# EAGLE library part TSOP48-SRAM (library arcadetv)
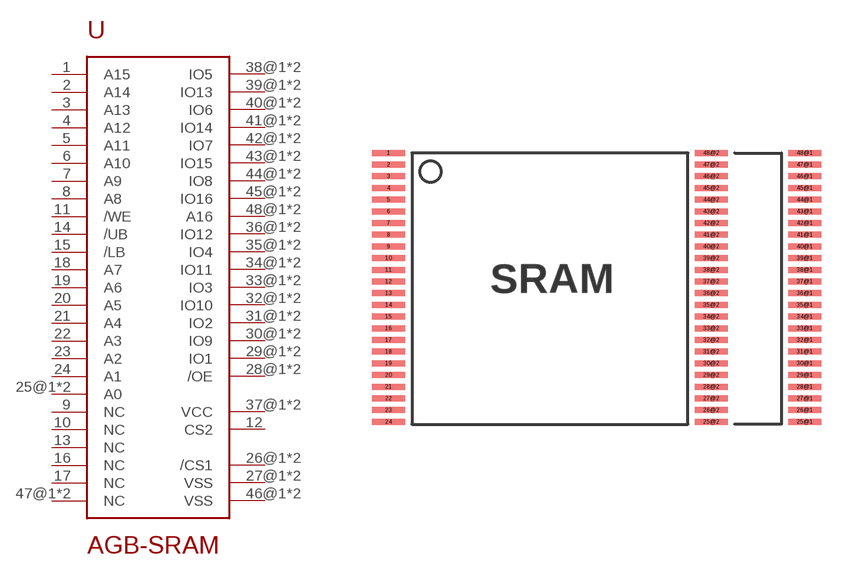
[diagram p15: symbol with the pads of TSOP48-SRAM; footprint TSOP48-SRAM]

Designator prefix -

## TSOP48-SRAM  [TSOP48-SRAM]
1  A15
2  A14
3  A13
4  A12
5  A11
6  A10
7  A9
8  A8
9  NC
10  NC
11  /WE
12  CS2
13  NC
14  /UB
15  /LB
16  NC
17  NC
18  A7
19  A6
20  A5
21  A4
22  A3
23  A2
24  A1
25@1  A0
25@2  A0
26@1  /CS1
26@2  /CS1
27@1  VSS
27@2  VSS
28@1  /OE
28@2  /OE
29@1  IO1
29@2  IO1
30@1  IO9
30@2  IO9
31@1  IO2
31@2  IO2
32@1  IO10
32@2  IO10
33@1  IO3
33@2  IO3
34@1  IO11
34@2  IO11
35@1  IO4
35@2  IO4
36@1  IO12
36@2  IO12
37@1  VCC
37@2  VCC
38@1  IO5
38@2  IO5
39@1  IO13
39@2  IO13
40@1  IO6
40@2  IO6
41@1  IO14
41@2  IO14
42@1  IO7
42@2  IO7
43@1  IO15
43@2  IO15
44@1  IO8
44@2  IO8
45@1  IO16
45@2  IO16
46@1  VSS
46@2  VSS
47@1  NC
47@2  NC
48@1  A16
48@2  A16

## Footprint TSOP48-SRAM (pad centres in mm)
48-Pin TSOP OCPL Type 1 (WC Package Code) Source: http://download.micron.com/pdf/datasheets/flash/nand/4gb_nand_m40a.pdf
smd 1.422 x 0.254: 1 0,0; 2 0,-0.5; 3 0,-1; 4 0,-1.5; 5 0,-2; 6 0,-2.5; 7 0,-3; 8 0,-3.5; 9 0,-4; 10 0,-4.5; 11 0,-5; 12 0,-5.5; 13 0,-6; 14 0,-6.5; 15 0,-7; 16 0,-7.5; 17 0,-8; 18 0,-8.5; 19 0,-9; 20 0,-9.5; 21 0,-10; 22 0,-10.5; 23 0,-11; 24 0,-11.5; 25@1 17.8,-11.5; 25@2 13.8,-11.5; 26@1 17.8,-11; 26@2 13.8,-11; 27@1 17.8,-10.5; 27@2 13.8,-10.5; 28@1 17.8,-10; 28@2 13.8,-10; 29@1 17.8,-9.5; 29@2 13.8,-9.5; 30@1 17.8,-9; 30@2 13.8,-9; 31@1 17.8,-8.5; 31@2 13.8,-8.5; 32@1 17.8,-8; 32@2 13.8,-8; 33@1 17.8,-7.5; 33@2 13.8,-7.5; 34@1 17.8,-7; 34@2 13.8,-7; 35@1 17.8,-6.5; 35@2 13.8,-6.5; 36@1 17.8,-6; 36@2 13.8,-6; 37@1 17.8,-5.5; 37@2 13.8,-5.5; 38@1 17.8,-5; 38@2 13.8,-5; 39@1 17.8,-4.5; 39@2 13.8,-4.5; 40@1 17.8,-4; 40@2 13.8,-4; 41@1 17.8,-3.5; 41@2 13.8,-3.5; 42@1 17.8,-3; 42@2 13.8,-3; 43@1 17.8,-2.5; 43@2 13.8,-2.5; 44@1 17.8,-2; 44@2 13.8,-2; 45@1 17.8,-1.5; 45@2 13.8,-1.5; 46@1 17.8,-1; 46@2 13.8,-1; 47@1 17.8,-0.5; 47@2 13.8,-0.5; 48@1 17.8,0; 48@2 13.8,0